# EAGLE library part UPD6376 (library apu_module)
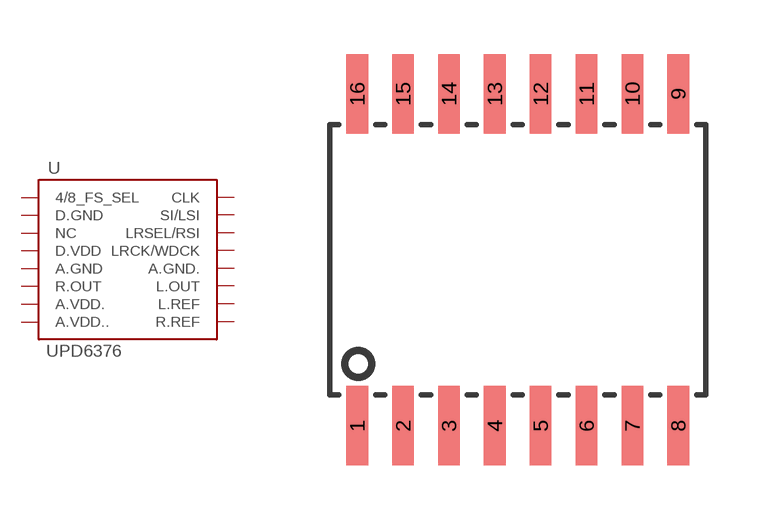
[diagram p5: symbol with the pads of SO16W; footprint SO16W]

Designator prefix -

## UPD6376  [SO16W]
1  4/8_FS_SEL
2  D.GND
3  NC
4  D.VDD
5  A.GND
6  R.OUT
7  A.VDD.
8  A.VDD..
9  R.REF
10  L.REF
11  L.OUT
12  A.GND.
13  LRCK/WDCK
14  LRSEL/RSI
15  SI/LSI
16  CLK

## Footprint SO16W (pad centres in mm)
SMALL OUTLINE INTEGRATED CIRCUIT wide body 7.5 mm/JEDEC MS-013AA
smd 0.6 x 2.2: 1 -4.445,-4.6; 2 -3.175,-4.6; 3 -1.905,-4.6; 4 -0.635,-4.6; 5 0.635,-4.6; 6 1.905,-4.6; 7 3.175,-4.6; 8 4.445,-4.6; 9 4.445,4.6; 10 3.175,4.6; 11 1.905,4.6; 12 0.635,4.6; 13 -0.635,4.6; 14 -1.905,4.6; 15 -3.175,4.6; 16 -4.445,4.6